# EAGLE library part 5M160ZE64 (library 68komputer)
5M160ZE64 edit this description Auto generated by make-symbol-device-package-bsdl.ulp Rev. 44 Source: 5M160ZE64.bsd
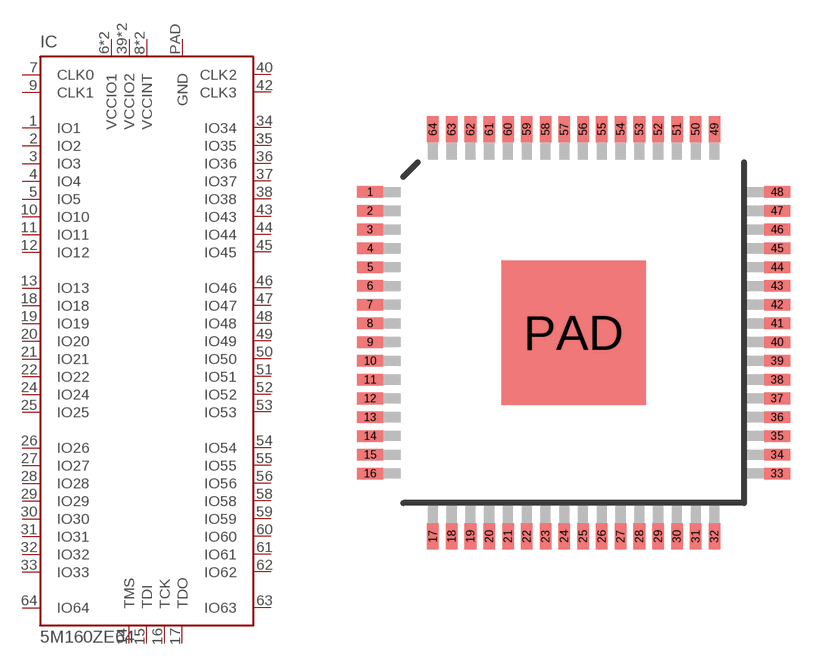
[diagram p0: symbol with the pads of EQFP64; footprint EQFP64]

Designator prefix IC

## 5M160ZE64 (MOUSER: 989-5M160ZE64C5N)  [EQFP64]
1  IO1
2  IO2
3  IO3
4  IO4
5  IO5
6  VCCIO1  pwr
7  CLK0
8  VCCINT  pwr
9  CLK1
10  IO10
11  IO11
12  IO12
13  IO13
14  TMS  in
15  TDI  in
16  TCK  in
17  TDO  out
18  IO18
19  IO19
20  IO20
21  IO21
22  IO22
23  VCCIO1  pwr
24  IO24
25  IO25
26  IO26
27  IO27
28  IO28
29  IO29
30  IO30
31  IO31
32  IO32
33  IO33
34  IO34
35  IO35
36  IO36
37  IO37
38  IO38
39  VCCIO2  pwr
40  CLK2
41  VCCINT  pwr
42  CLK3
43  IO43
44  IO44
45  IO45
46  IO46
47  IO47
48  IO48
49  IO49
50  IO50
51  IO51
52  IO52
53  IO53
54  IO54
55  IO55
56  IO56
57  VCCIO2  pwr
58  IO58
59  IO59
60  IO60
61  IO61
62  IO62
63  IO63
64  IO64
PAD  GND  pwr

## Footprint EQFP64 (pad centres in mm)
EQFP64 Auto generated by make-symbol-device-package-bsdl.ulp Rev. 44
smd 0.9 x 0.4: 1 -7.05,4.875; 2 -7.05,4.225; 3 -7.05,3.575; 4 -7.05,2.925; 5 -7.05,2.275; 6 -7.05,1.625; 7 -7.05,0.975; 8 -7.05,0.325; 9 -7.05,-0.325; 10 -7.05,-0.975; 11 -7.05,-1.625; 12 -7.05,-2.275; 13 -7.05,-2.925; 14 -7.05,-3.575; 15 -7.05,-4.225; 16 -7.05,-4.875; 33 7.05,-4.875; 34 7.05,-4.225; 35 7.05,-3.575; 36 7.05,-2.925; 37 7.05,-2.275; 38 7.05,-1.625; 39 7.05,-0.975; 40 7.05,-0.325; 41 7.05,0.325; 42 7.05,0.975; 43 7.05,1.625; 44 7.05,2.275; 45 7.05,2.925; 46 7.05,3.575; 47 7.05,4.225; 48 7.05,4.875
smd 0.4 x 0.9: 17 -4.875,-7.05; 18 -4.225,-7.05; 19 -3.575,-7.05; 20 -2.925,-7.05; 21 -2.275,-7.05; 22 -1.625,-7.05; 23 -0.975,-7.05; 24 -0.325,-7.05; 25 0.325,-7.05; 26 0.975,-7.05; 27 1.625,-7.05; 28 2.275,-7.05; 29 2.925,-7.05; 30 3.575,-7.05; 31 4.225,-7.05; 32 4.875,-7.05; 49 4.875,7.05; 50 4.225,7.05; 51 3.575,7.05; 52 2.925,7.05; 53 2.275,7.05; 54 1.625,7.05; 55 0.975,7.05; 56 0.325,7.05; 57 -0.325,7.05; 58 -0.975,7.05; 59 -1.625,7.05; 60 -2.275,7.05; 61 -2.925,7.05; 62 -3.575,7.05; 63 -4.225,7.05; 64 -4.875,7.05
smd 5 x 5: PAD 0,0